# EAGLE library part DMMT5401 (library Richard_Experimental)
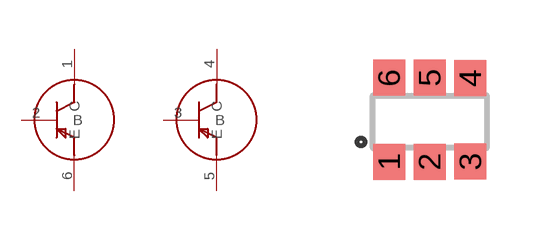
[diagram p0: symbol with the pads of SOT23-6; footprint SOT23-6]

Designator prefix -; gates G$1=DMMT5401 G$2=DMMT5401

## DMMT5401  [SOT23-6]
1  G$1:C
2  G$1:B
3  G$2:B
4  G$2:C
5  G$2:E
6  G$1:E

## Footprint SOT23-6 (pad centres in mm)
smd 0.8 x 0.9: 1 -1.014,-1; 2 -0.003,-1; 3 1.016,-0.996; 4 1.014,1.095; 5 0,1.1; 6 -1.016,1.1